# EAGLE library part MI (library MI)
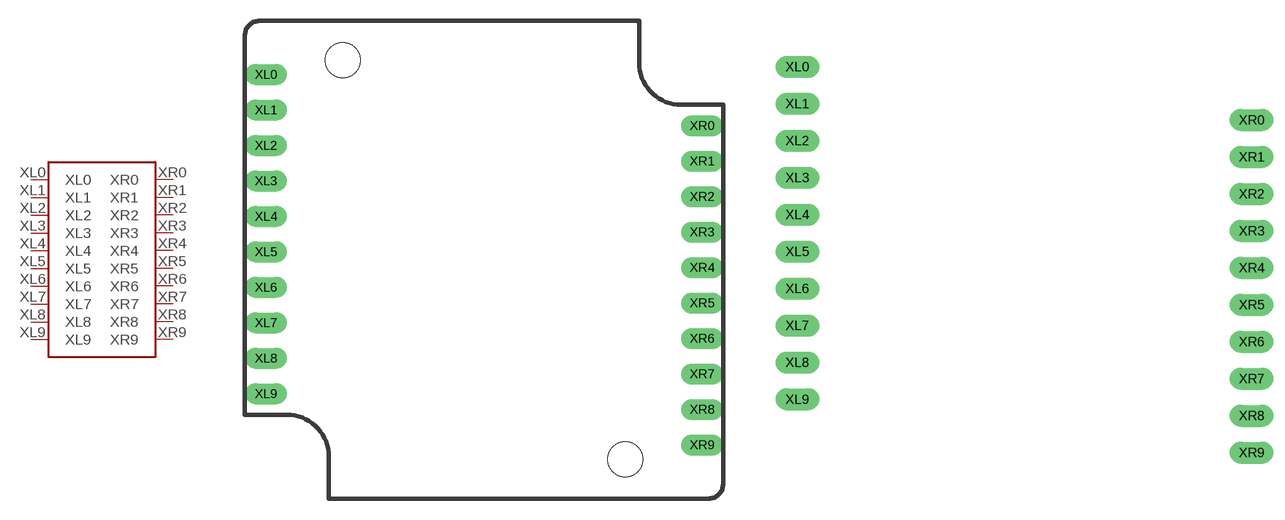
[diagram p0: symbol with the pads of MI_34X34MM; footprints MI_34X34MM, MI_34X34MM_TERMINALS_ONLY]

Designator prefix -

## MIPCB  [MI_34X34MM]
XL0  XL0
XL1  XL1
XL2  XL2
XL3  XL3
XL4  XL4
XL5  XL5
XL6  XL6
XL7  XL7
XL8  XL8
XL9  XL9
XR0  XR0
XR1  XR1
XR2  XR2
XR3  XR3
XR4  XR4
XR5  XR5
XR6  XR6
XR7  XR7
XR8  XR8
XR9  XR9

## MITERMINALS_ONLY  [MI_34X34MM_TERMINALS_ONLY]
Pads as for MI_34X34MM

## MIPANEL  [MI_34X34MM_PANEL]
Pads as for MI_34X34MM

## Footprint MI_34X34MM (pad centres in mm)
drill 1 long: XL0 1.5,30.36; XL1 1.5,27.82; XL2 1.5,25.28; XL3 1.5,22.74; XL4 1.5,20.2; XL5 1.5,17.66; XL6 1.5,15.12; XL7 1.5,12.58; XL8 1.5,10.04; XL9 1.5,7.5; XR0 32.7,26.7; XR1 32.7,24.16; XR2 32.7,21.62; XR3 32.7,19.08; XR4 32.7,16.54; XR5 32.7,14; XR6 32.7,11.46; XR7 32.7,8.92; XR8 32.7,6.38; XR9 32.7,3.84
hole 2.5 at 27.2,2.8
hole 2.5 at 7,31.4

## Footprint MI_34X34MM_TERMINALS_ONLY (pad centres in mm)
drill 1 long: XL0 1.5,30.36; XL1 1.5,27.82; XL2 1.5,25.28; XL3 1.5,22.74; XL4 1.5,20.2; XL5 1.5,17.66; XL6 1.5,15.12; XL7 1.5,12.58; XL8 1.5,10.04; XL9 1.5,7.5; XR0 32.7,26.7; XR1 32.7,24.16; XR2 32.7,21.62; XR3 32.7,19.08; XR4 32.7,16.54; XR5 32.7,14; XR6 32.7,11.46; XR7 32.7,8.92; XR8 32.7,6.38; XR9 32.7,3.84

## Footprint MI_34X34MM_PANEL (pad centres in mm)
drill 1 long: XL0 1.5,30.36; XL1 1.5,27.82; XL2 1.5,25.28; XL3 1.5,22.74; XL4 1.5,20.2; XL5 1.5,17.66; XL6 1.5,15.12; XL7 1.5,12.58; XL8 1.5,10.04; XL9 1.5,7.5; XR0 32.7,26.7; XR1 32.7,24.16; XR2 32.7,21.62; XR3 32.7,19.08; XR4 32.7,16.54; XR5 32.7,14; XR6 32.7,11.46; XR7 32.7,8.92; XR8 32.7,6.38; XR9 32.7,3.84
hole 2.5 at 27.2,2.8
hole 2.5 at 7,31.4